# EAGLE library part HSEC8-140-01-S-RA (library COM_ETH-V1)
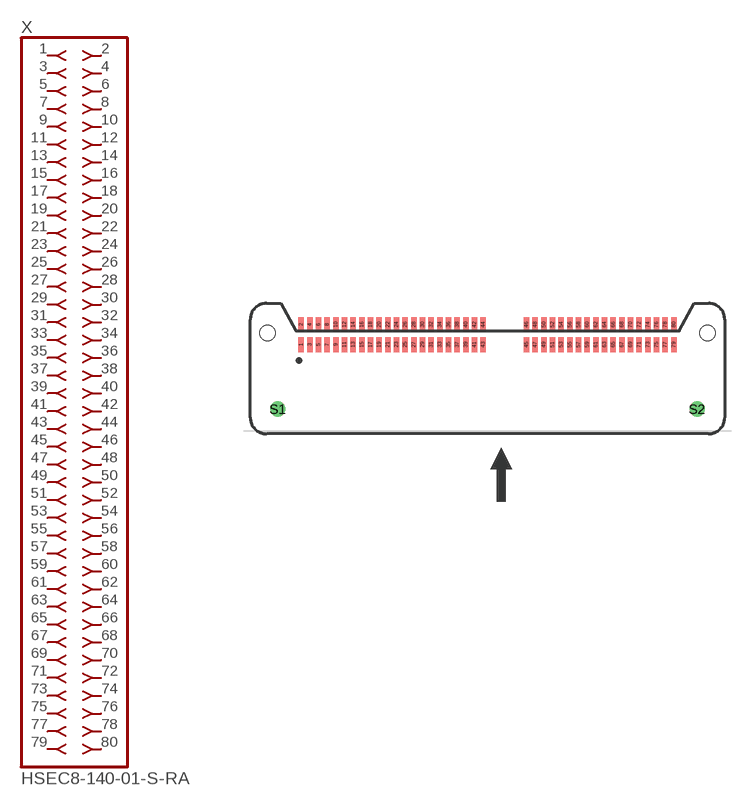
[diagram p8: symbol with the pads of HSEC8-140-XX-X-RA; footprint HSEC8-140-XX-X-RA]

Designator prefix X

## HSEC8-140-01-S-RA  [HSEC8-140-XX-X-RA]
1  1  pas
2  2  pas
3  3  pas
4  4  pas
5  5  pas
6  6  pas
7  7  pas
8  8  pas
9  9  pas
10  10  pas
11  11  pas
12  12  pas
13  13  pas
14  14  pas
15  15  pas
16  16  pas
17  17  pas
18  18  pas
19  19  pas
20  20  pas
21  21  pas
22  22  pas
23  23  pas
24  24  pas
25  25  pas
26  26  pas
27  27  pas
28  28  pas
29  29  pas
30  30  pas
31  31  pas
32  32  pas
33  33  pas
34  34  pas
35  35  pas
36  36  pas
37  37  pas
38  38  pas
39  39  pas
40  40  pas
41  41  pas
42  42  pas
43  43  pas
44  44  pas
45  45  pas
46  46  pas
47  47  pas
48  48  pas
49  49  pas
50  50  pas
51  51  pas
52  52  pas
53  53  pas
54  54  pas
55  55  pas
56  56  pas
57  57  pas
58  58  pas
59  59  pas
60  60  pas
61  61  pas
62  62  pas
63  63  pas
64  64  pas
65  65  pas
66  66  pas
67  67  pas
68  68  pas
69  69  pas
70  70  pas
71  71  pas
72  72  pas
73  73  pas
74  74  pas
75  75  pas
76  76  pas
77  77  pas
78  78  pas
79  79  pas
80  80  pas

## Footprint HSEC8-140-XX-X-RA (pad centres in mm)
PCB Matrix Packages
smd 0.5 x 1.35: 1 -17.2,-0.925; 2 -17.2,0.925; 3 -16.4,-0.925; 4 -16.4,0.925; 5 -15.6,-0.925; 6 -15.6,0.925; 7 -14.8,-0.925; 8 -14.8,0.925; 9 -14,-0.925; 10 -14,0.925; 11 -13.2,-0.925; 12 -13.2,0.925; 13 -12.4,-0.925; 14 -12.4,0.925; 15 -11.6,-0.925; 16 -11.6,0.925; 17 -10.8,-0.925; 18 -10.8,0.925; 19 -10,-0.925; 20 -10,0.925; 21 -9.2,-0.925; 22 -9.2,0.925; 23 -8.4,-0.925; 24 -8.4,0.925; 25 -7.6,-0.925; 26 -7.6,0.925; 27 -6.8,-0.925; 28 -6.8,0.925; 29 -6,-0.925; 30 -6,0.925; 31 -5.2,-0.925; 32 -5.2,0.925; 33 -4.4,-0.925; 34 -4.4,0.925; 35 -3.6,-0.925; 36 -3.6,0.925; 37 -2.8,-0.925; 38 -2.8,0.925; 39 -2,-0.925; 40 -2,0.925; 41 -1.2,-0.925; 42 -1.2,0.925; 43 -0.4,-0.925; 44 -0.4,0.925; 45 3.6,-0.925; 46 3.6,0.925; 47 4.4,-0.925; 48 4.4,0.925; 49 5.2,-0.925; 50 5.2,0.925; 51 6,-0.925; 52 6,0.925; 53 6.8,-0.925; 54 6.8,0.925; 55 7.6,-0.925; 56 7.6,0.925; 57 8.4,-0.925; 58 8.4,0.925; 59 9.2,-0.925; 60 9.2,0.925; 61 10,-0.925; 62 10,0.925; 63 10.8,-0.925; 64 10.8,0.925; 65 11.6,-0.925; 66 11.6,0.925; 67 12.4,-0.925; 68 12.4,0.925; 69 13.2,-0.925; 70 13.2,0.925; 71 14,-0.925; 72 14,0.925; 73 14.8,-0.925; 74 14.8,0.925; 75 15.6,-0.925; 76 15.6,0.925; 77 16.4,-0.925; 78 16.4,0.925; 79 17.2,-0.925; 80 17.2,0.925
drill 0.7 pad 1.4 round: S1 -19.35,-6.86; S2 19.35,-6.86
hole 1.4 at -20.3,0.15
hole 1.4 at 20.3,0.15